# Altium schematic symbol library Gravix-IND.SchLib: 1 symbol
Pins are listed as number, name and electrical type; pins without a type are passive.

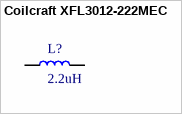
[diagram p0: symbol Coilcraft XFL3012-222MEC]

## Coilcraft XFL3012-222MEC
designator L?, comment 2.2uH
1.9A 2.2uH ±20% 97mΩ 1.6A Magnetic Shielded Inductor SMD,3x3mm Fixed Inductors RoHS; Manufacturer: Coilcraft; Manufacturer Part Number: XFL3012-222MEC; LCSC Part Number: C3911432; Package: SMD,3x3mm; ComponentLink1Description: Digikey Link; Mounting Type: SMD; ComponentLink2Description: LCSC Link; ComponentLink2URL: https://www.lcsc.com/product-detail/C3911432.html?s_z=n_q_XFL3012-222MEC&spm=wm.ssy.bg.0.xh&lcsc_vid=QlAIX1RQQQJfX1VRTwcNAQJXTlRaUQBVEQBYAwJfFFcxVlNRT1FaUl1VQVZcUDsOAxUeFF5JWBYZEEoKFBINSQcJGk4%3D
footprint IND_SMD,3x3mm
pins: 1, 2